# EAGLE library part KYX2381_TRIPLE7SEG (library jason_eagle6)
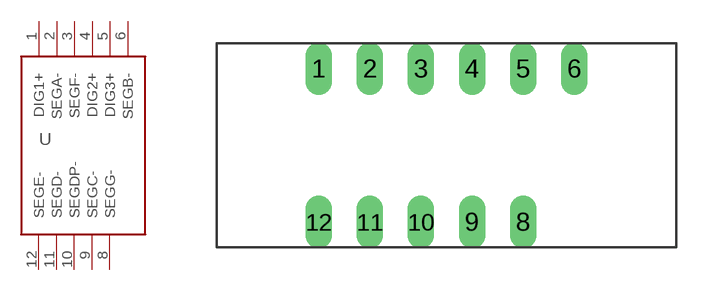
[diagram p19: symbol with the pads of KYX2381_TRIPLE7SEG; footprint KYX2381_TRIPLE7SEG]

Designator prefix -

## KYX2381_TRIPLE7SEG  [KYX2381_TRIPLE7SEG]
1  DIG1+
2  SEGA-
3  SEGF-
4  DIG2+
5  DIG3+
6  SEGB-
8  SEGG-
9  SEGC-
10  SEGDP-
11  SEGD-
12  SEGE-

## Footprint KYX2381_TRIPLE7SEG (pad centres in mm)
drill 0.8 long: 1 -6.35,3.81; 2 -3.81,3.81; 3 -1.27,3.81; 4 1.27,3.81; 5 3.81,3.81; 6 6.35,3.81; 8 3.81,-3.81; 9 1.27,-3.81; 10 -1.27,-3.81; 11 -3.81,-3.81; 12 -6.35,-3.81